# Altium schematic symbol library MOSFET_IGBT Driver.SchLib: 1 symbol
Pins are listed as number, name and electrical type; pins without a type are passive.

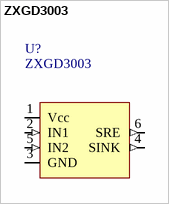
[diagram p0: symbol ZXGD3003]

## ZXGD3003
designator U?  value ZXGD3003  (hidden comment: *)
ZXGD3003; Catalog: *; Catalog page: *; Price: *
footprint SOT26A-6L (SOT23, 6-Leads, Body 2.9x1.7mm, Pitch 0.95mm, Lead Span 2.8mm, IPC High Density)
pins: 1 Vcc (power), 2 IN1 (in), 3 GND (power), 4 SINK (out), 5 IN2 (in), 6 SRE (out)